# Altium footprint library Data_logger.PcbLib: 66 footprints (part 4 of 5)
Each footprint in its own frame and in the unit in brackets; x right, y up, seen from the top. Pads: shape width x height; smd on the part's side, far side on the other; paste and mask are expansions set on the pad; w line width, h text height; cw(c..) or ccw(c..) is an arc to the next point about the centre after c.
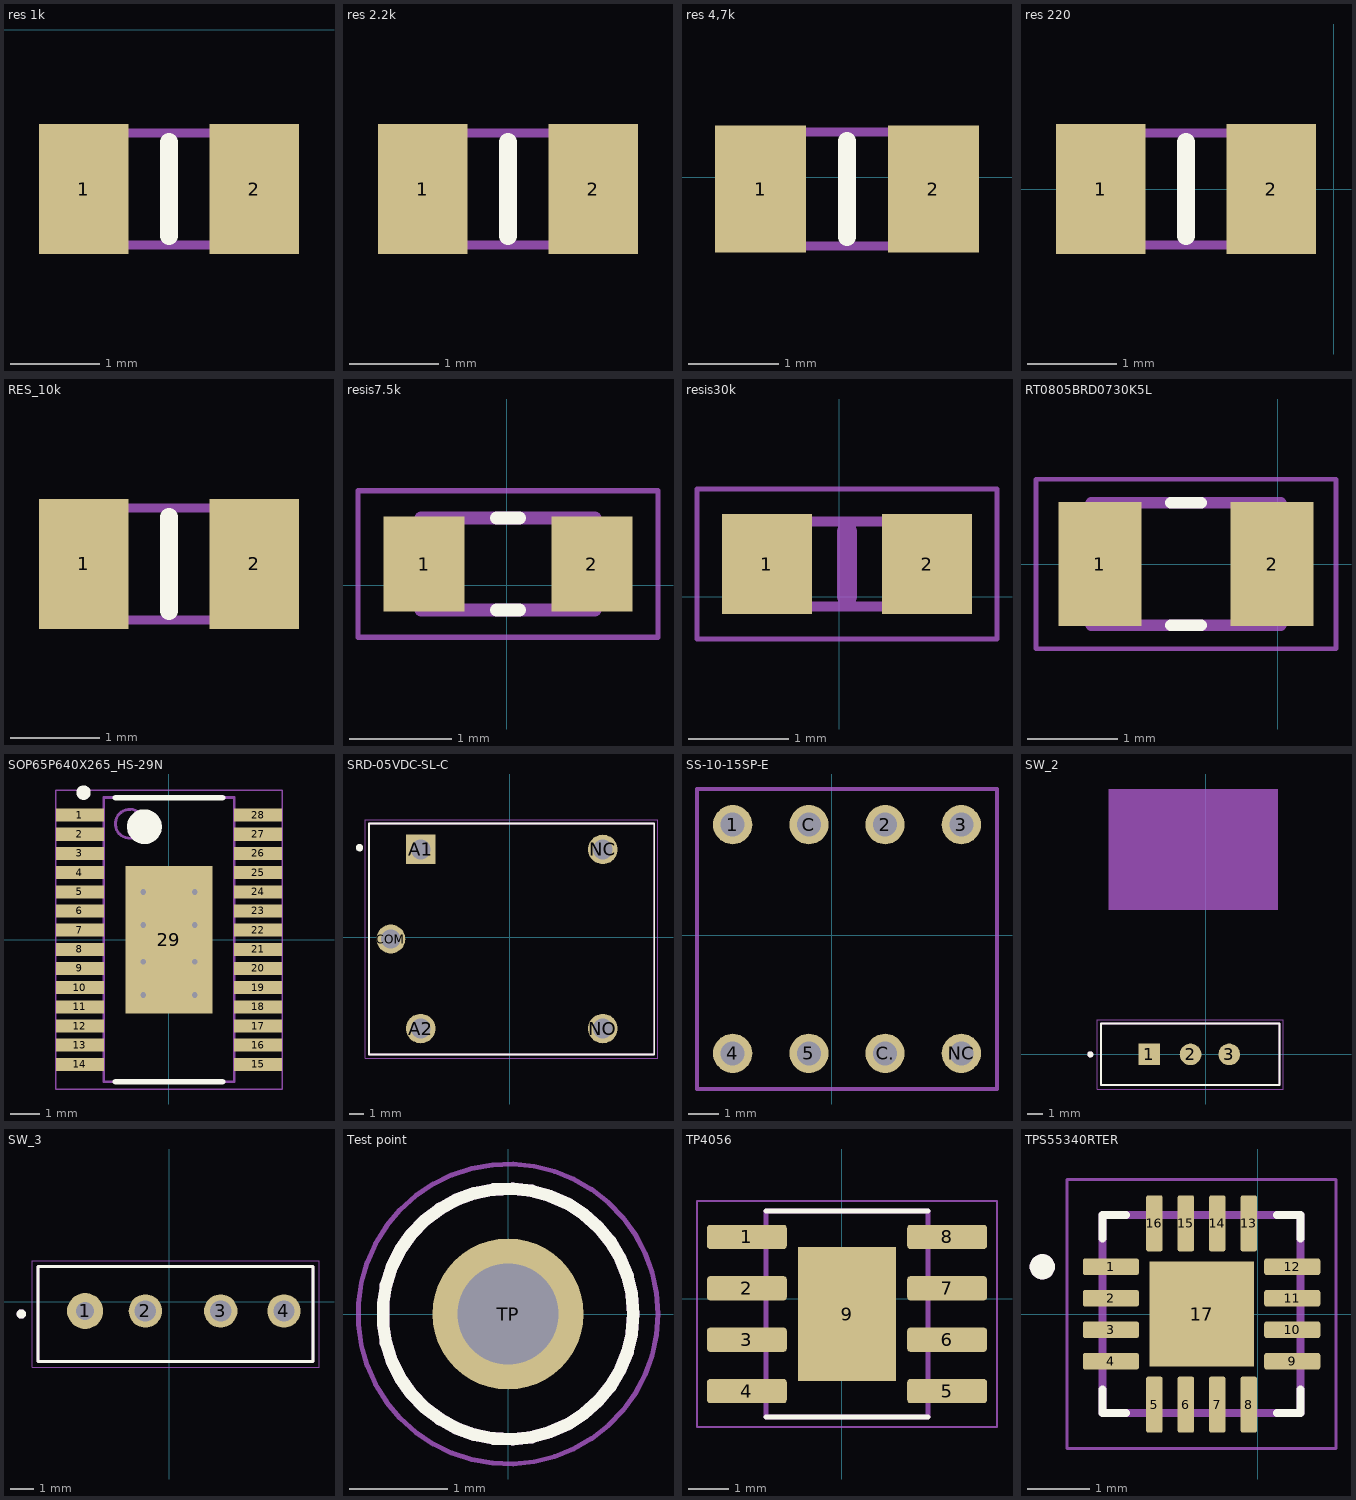
[diagram p3: the footprints below, top view; thin cyan lines are the x and y axes]

## res 1k [mm]
pads (2):
  rect 1x1.45 smd: 1(2.098,-1.778) 2(3.998,-1.778)
Top Overlay:
  lines w0.2: 3.048,-2.303 3.048,-1.253
Top Courtyard:
  lines w0.1: 2.048,-2.403 2.048,-1.153 4.048,-1.153 4.048,-2.403 2.048,-2.403
3D body "CRCW08051K00FKEAHP.stp": height 0.6, standoff 0, extent 2.048,-2.403 4.048,-1.153

## res 2.2k [mm]
pads (2):
  rect 1x1.45 smd: 1(-15.428,-3.175) 2(-13.528,-3.175)
Top Overlay:
  lines w0.2: -14.478,-3.7 -14.478,-2.65
Top Courtyard:
  lines w0.1: -15.478,-3.8 -13.478,-3.8 -13.478,-2.55 -15.478,-2.55 -15.478,-3.8
3D body "CRG0805F2K2.stp": height 0.51, standoff -0.05, extent -15.478,-3.8 -13.478,-2.55

## res 4,7k [mm]
pads (2):
  rect 1x1.4 smd: 1(-3.998,-0.127) 2(-2.098,-0.127)
Top Overlay:
  lines w0.2: -3.048,-0.652 -3.048,0.398
Top Courtyard:
  lines w0.1: -4.048,-0.752 -4.048,0.498 -2.048,0.498 -2.048,-0.752 -4.048,-0.752
3D body "CMP0805AFX-1002ELF.stp": height 0.6, standoff 0, extent -4.048,-0.752 -2.048,0.498

## res 220 [mm]
pads (2):
  rect 1x1.45 smd: 1(-2.601,0) 2(-0.701,0)
Top Overlay:
  lines w0.2: -1.651,-0.525 -1.651,0.525
Top Courtyard:
  lines w0.1: -2.651,-0.625 -0.651,-0.625 -0.651,0.625 -2.651,0.625 -2.651,-0.625
3D body "CRCW0805220RFKEAHP.stp": height 0.6, standoff 0, extent -2.651,-0.625 -0.651,0.625

## RES_10k [mm]
pads (2):
  rect 1x1.45 smd: 1(-481.518,-25.781) 2(-479.618,-25.781)
Top Overlay:
  lines w0.2: -480.568,-26.306 -480.568,-25.256
Top Courtyard:
  lines w0.1: -481.568,-26.406 -481.568,-25.156 -479.568,-25.156 -479.568,-26.406 -481.568,-26.406
3D body "CRCW0805220RFKEAHP.stp": height 0.6, standoff 0, extent -481.568,-26.406 -479.568,-25.156

## resis7.5k [mm]
pads (2):
  rect 0.79x0.93 smd: 1(-0.81,0.208) 2(0.83,0.208)
Top Overlay:
  lines w0.127: -0.1,-0.242 0.12,-0.242 ; -0.1,0.658 0.12,0.658
Top 3D Body:
  lines w0.127: -0.84,-0.242 -0.84,0.658 0.86,0.658 0.86,-0.242 -0.84,-0.242
Top Courtyard:
  lines w0.05: -1.455,-0.507 -1.455,0.923 1.475,0.923 1.475,-0.507 -1.455,-0.507
3D body "AC0603JR-077K5L.STEP": height 0.45, standoff 0, extent -0.75,-0.225 0.85,0.575

## resis30k [mm]
pads (2):
  rect 0.9x1 smd: 1(-0.721,0.327) 2(0.879,0.327)
Bottom Assembly:
  lines w0.05: -1.421,-0.423 1.579,-0.423 1.579,1.077 -1.421,1.077 -1.421,-0.423
  lines w0.1: -0.721,-0.098 0.879,-0.098 0.879,0.752 -0.721,0.752 -0.721,-0.098
Mechanical 7:
  lines w0.2: 0.079,0.002 0.079,0.652
3D body "ERJ-S03F3002V.stp": height 0.45, standoff 0, extent -0.721,-0.073 0.879,0.727

## RT0805BRD0730K5L [mm]
pads (2):
  rect 0.92x1.38 smd: 1(-1.971,0) 2(-0.061,0)
Top Overlay:
  lines w0.127: -1.186,-0.68 -0.846,-0.68 ; -1.186,0.68 -0.846,0.68
Top 3D Body:
  lines w0.127: -2.066,-0.68 -2.066,0.68 0.034,0.68 0.034,-0.68 -2.066,-0.68
Top Courtyard:
  lines w0.05: -2.681,-0.94 -2.681,0.94 0.649,0.94 0.649,-0.94 -2.681,-0.94
3D body "step_temp.STEP": height 0.6, standoff 0, extent -2.016,-0.625 -0.016,0.625

## SOP65P640X265_HS-29N [mm] "SOP, 28-Leads, Body 9,70x4,40mm, Pitch 0,65mm, Thermal Pad 5,08x3,00mm, IPC Medium Density"
height 2.65
pads (29):
  rect 1.65x0.45 smd: 1(-3.075,4.3) 2(-3.075,3.638) 3(-3.075,2.977) 4(-3.075,2.315) 5(-3.075,1.654) 6(-3.075,0.992) 7(-3.075,0.331) 8(-3.075,-0.331) 9(-3.075,-0.992) 10(-3.075,-1.654) 11(-3.075,-2.315) 12(-3.075,-2.977) 13(-3.075,-3.638) 14(-3.075,-4.3) 15(3.075,-4.3) 16(3.075,-3.638) 17(3.075,-2.977) 18(3.075,-2.315) 19(3.075,-1.654) 20(3.075,-0.992) 21(3.075,-0.331) 22(3.075,0.331) 23(3.075,0.992) 24(3.075,1.654) 25(3.075,2.315) 26(3.075,2.977) 27(3.075,3.638) 28(3.075,4.3)
  rect 3x5.08 smd: 29(0,0)
via 0.889,-1.905 diameter 0.4 hole 0.2
via -0.889,-1.905 diameter 0.4 hole 0.2
via -0.889,-0.762 diameter 0.4 hole 0.2
via 0.889,-0.762 diameter 0.4 hole 0.2
via -0.889,0.508 diameter 0.4 hole 0.2
via 0.889,0.508 diameter 0.4 hole 0.2
via 0.889,1.651 diameter 0.4 hole 0.2
via -0.889,1.651 diameter 0.4 hole 0.2
Top Overlay:
  circle w0.25: c-2.95,5.075 r0.125
  circle w0.6: c-0.85,3.9 r0.3
  lines w0.2: -1.85,-4.9 1.85,-4.9 ; -1.85,4.9 1.85,4.9
Top Assembly:
  circle w0.1: c-1.35,4 r0.5
  lines w0.1: -2.25,-4.9 -2.25,4.9 2.25,4.9 2.25,-4.9 -2.25,-4.9
Top Courtyard:
  lines w0.05: -3.9,-5.15 -3.9,5.15 3.9,5.15 3.9,-5.15 -3.9,-5.15
  lines w0.1: -0.5,0 0.5,0 ; 0,-0.5 0,0.5
3D body "SOP65P640X265_HS-29N.step": height 2.65, standoff 0, extent -3.2,-4.9 3.2,4.9

## SRD-05VDC-SL-C [mm]
pads (5):
  rect 1.98x1.98 / inner round 1.98 / far side rect 1.98x1.98 hole 1.32: A1(-5.973,5.873)
  round 1.98 hole 1.32: A2(-5.973,-6.127) NC(6.227,5.873) NO(6.227,-6.127)
  round 1.935 hole 1.29: COM(-7.973,-0.127)
Top Overlay:
  circle w0.3: c-10.073,5.992 r0.1
  lines w0.127: -9.423,-7.877 9.677,-7.877 9.677,7.623 -9.423,7.623 -9.423,-7.877
Top 3D Body:
  lines w0.127: -9.423,-7.877 9.677,-7.877 9.677,7.623 -9.423,7.623 -9.423,-7.877
Top Courtyard:
  lines w0.05: -9.673,-8.127 9.927,-8.127 9.927,7.873 -9.673,7.873 -9.673,-8.127
3D body "SRD-05VDC-SL-C.STEP": height 15.8, standoff -3, extent -9.473,-7.927 9.727,7.673

## SS-10-15SP-E [mil]
pads (8):
  round 51.5 hole 31.5: 1(-130,145) 2(70,145) 3(170,145) 4(-130,-155) 5(-30,-155) C(-30,145) C.(70,-155) NC(170,-155)
Top 3D Body:
  lines w5: -176.85,-201.85 -176.85,191.85 216.85,191.85 216.85,-201.85 -176.85,-201.85

## SW_2 [mil]
pads (3):
  rect 55.43x55.43 hole 2.5: 1(-145,0)
  round 55.43 hole 2.5: 2(-39.21,0) 3(60,0)
Top Overlay:
  circle w7.87: c-295.91,0 r3.94
  lines w5: -268.35,-78.74 188.35,-78.74 188.35,78.74 -268.35,78.74 -268.35,-78.74
Mechanical 1:
  rectangle: -250,370 185,680
Top 3D Body:
  circle w7.87: c-295.91,0 r3.94
  lines w5: -268.35,-78.74 -268.35,-39.37 -268.35,39.37 -268.35,78.74 188.35,78.74 188.35,-78.74 -268.35,-78.74
Top Courtyard:
  lines w1.97: -278.19,-88.58 198.19,-88.58 198.19,88.58 -278.19,88.58 -278.19,-88.58
3D body "MINI-SPDT-SW--3DModel-STEP-56544.STEP": height 291.34, standoff -185.04, extent -267.56,-78.74 189.13,78.74

## SW_3 [mil]
pads (4):
  round 60 hole 30: 1(-140,-15)
  round 55.43 hole 35.43: 2(-40,-15) 3(85,-15) 4(190,-15)
Top Overlay:
  circle w7.87: c-245.91,-20 r3.94
  lines w5: -218.35,-98.74 -218.35,58.74 238.35,58.74 238.35,-98.74 -218.35,-98.74
Top 3D Body:
  circle w7.87: c-245.91,-20 r3.94
  lines w5: -218.35,-98.74 -218.35,58.74 238.35,58.74 238.35,-98.74 -218.35,-98.74
Top Courtyard:
  lines w1.97: -228.19,-108.58 -228.19,68.58 248.19,68.58 248.19,-108.58 -228.19,-108.58
3D body "MINI-SPDT-SW--3DModel-STEP-56544.STEP": height 291.34, standoff -185.04, extent -217.56,-98.74 239.13,58.74

## Test point [mm]
pads (1):
  round 1.53 hole 1.02: TP(0,0)
Top Overlay:
  circle w0.127: c0,0 r1.27
Top 3D Body:
  circle w0.127: c0,0 r1.27
Top Courtyard:
  circle w0.05: c0,0 r1.52
3D body "step_temp.STEP": height 4.57, standoff -3.05, extent -1.27,-1.27 1.27,1.27

## TP4056 [mm]
pads (9):
  rrect25% 1.97x0.6 smd: 1(-2.348,1.524) 2(-2.348,0.254) 3(-2.348,-1.016) 4(-2.348,-2.286) 5(2.602,-2.286) 6(2.602,-1.016) 7(2.602,0.254) 8(2.602,1.524)
  rect 2.413x3.302 smd paste-3: 9(0.127,-0.381)
Top Overlay:
  lines w0.127: -1.873,-2.931 2.127,-2.931 ; -1.873,2.169 2.127,2.169
Top Paste:
  region: 0.772,-1.201 -0.518,-1.201 -0.518,0.439 0.772,0.439
Top 3D Body:
  lines w0.127: -1.873,-2.931 -1.873,2.169 2.127,2.169 2.127,-2.931 -1.873,-2.931
Top Courtyard:
  lines w0.05: -3.583,-3.181 -3.583,2.419 3.837,2.419 3.837,-3.181 -3.583,-3.181
3D body "step_temp.STEP": height 1.75, standoff 0, extent -2.873,-2.831 3.127,2.069

## TPS55340RTER [mm]
pads (17):
  rrect25% 0.89x0.26 smd: 1(-2.329,0.75) 2(-2.329,0.25) 3(-2.329,-0.25) 4(-2.329,-0.75) 9(0.551,-0.75) 10(0.551,-0.25) 11(0.551,0.25) 12(0.551,0.75)
  rrect25% 0.26x0.89 smd: 5(-1.639,-1.44) 6(-1.139,-1.44) 7(-0.639,-1.44) 8(-0.139,-1.44) 13(-0.139,1.44) 14(-0.639,1.44) 15(-1.139,1.44) 16(-1.639,1.44)
  rect 1.66x1.66 smd paste-0.31: 17(-0.889,0)
Top Overlay:
  circle w0.2: c-3.419,0.75 r0.1
  lines w0.127: -2.464,-1.2 -2.464,-1.575 -2.089,-1.575 ; -2.464,1.2 -2.464,1.575 -2.089,1.575 ; 0.311,-1.575 0.686,-1.575 0.686,-1.2 ; 0.311,1.575 0.686,1.575 0.686,1.2
Top 3D Body:
  circle w0.2: c-3.419,0.75 r0.1
  lines w0.127: -2.464,-1.575 -2.464,1.575 0.686,1.575 0.686,-1.575 -2.464,-1.575
Top Courtyard:
  lines w0.05: -3.024,-2.135 -3.024,2.135 1.246,2.135 1.246,-2.135 -3.024,-2.135
3D body "step_temp.STEP": height 0.8, standoff 0, extent -2.389,-1.5 0.611,1.5